# Altium schematic symbol library stimmy32_sch.SchLib: 1 symbol
Pins are listed as number, name and electrical type; pins without a type are passive.

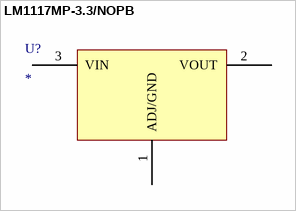
[diagram p0: symbol LM1117MP-3.3/NOPB]

## LM1117MP-3.3/NOPB
designator U?
IC REG LINEAR 3.3V 800MA SOT223
pins: 1 ADJ/GND (power), 2 VOUT (power), 3 VIN